# Altium schematic symbol library MAX17048G+T10.SchLib: 1 symbol
Pins are listed as number, name and electrical type; pins without a type are passive.

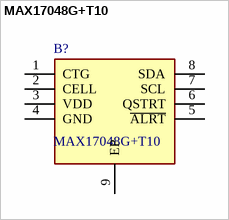
[diagram p0: symbol MAX17048G+T10]

## MAX17048G+T10
designator B?
3A 1-Cell/2-Cell Fuel Gauge with ModelGauge; Manufacturer_Name: Analog Devices; Geometry.Height: 0.8mm; Mouser Part Number: 700-MAX17048G+T10; Mouser Price/Stock: https://www.mouser.co.uk/ProductDetail/Analog-Devices-Maxim-Integrated/MAX17048G%2bT10?qs=D7PJwyCwLAoGnnn8jEPRBQ%3D%3D; Manufacturer_Part_Number: MAX17048G+T10; Datasheet Link: https://www.analog.com/MAX17048/datasheet
footprint SON50P200X200X80-9N-D
pins: 1 CTG, 2 CELL, 3 VDD, 4 GND, 5 ~{ALRT}, 6 QSTRT, 7 SCL, 8 SDA, 9 EP